# Altium schematic symbol library GENERIC_SPEAKER_MECHANICAL.SchLib: 1 symbol
Pins are listed as number, name and electrical type; pins without a type are passive.

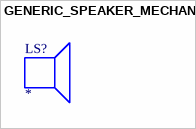
[diagram p0: symbol GENERIC_SPEAKER_MECHANICAL]

## GENERIC_SPEAKER_MECHANICAL
designator LS?  (mechanical)